# EAGLE library part 74HC164 (library lightmeter)
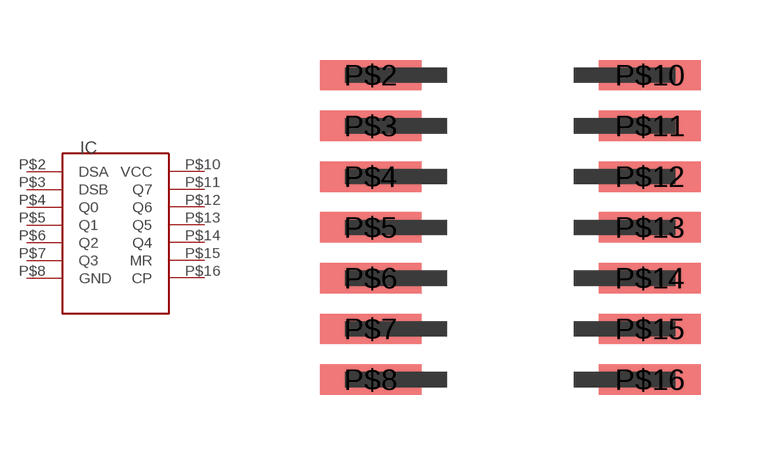
[diagram p0: symbol with the pads of SOP-16; footprint SOP-16]

Designator prefix IC

## 74HC164  [SOP-16]
P$2  DSA
P$3  DSB
P$4  Q0
P$5  Q1
P$6  Q2
P$7  Q3
P$8  GND
P$10  VCC
P$11  Q7
P$12  Q6
P$13  Q5
P$14  Q4
P$15  MR
P$16  CP

## Footprint SOP-16 (pad centres in mm)
smd 2.54 x 0.762: P$2 2.54,6.35; P$3 2.54,5.08; P$4 2.54,3.81; P$5 2.54,2.54; P$6 2.54,1.27; P$7 2.54,0; P$8 2.54,-1.27; P$10 9.525,6.35; P$11 9.525,5.08; P$12 9.525,3.81; P$13 9.525,2.54; P$14 9.525,1.27; P$15 9.525,0; P$16 9.525,-1.27